# EAGLE library part SPBTLE-RFTR (library MCU_Print_V2)
Bluetooth Modules (802.15.1). Very low power module for Bluetooth Smart v4.1, Mouser : 511-SPBTLE-RFTR
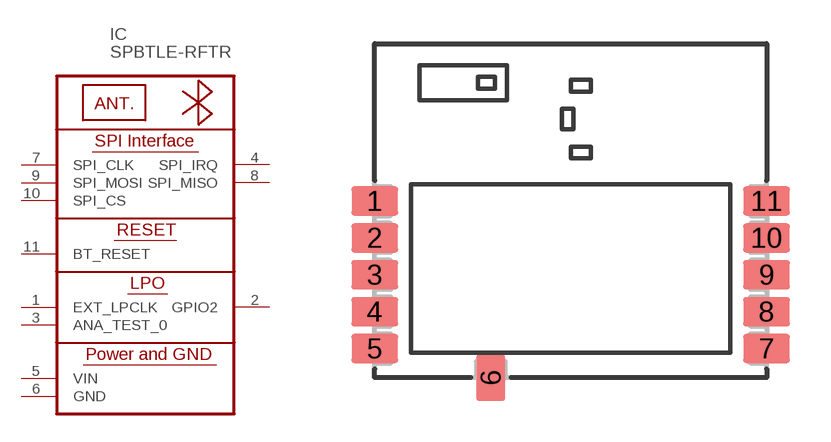
[diagram p5: symbol with the pads of SPBTLE-RFTR; footprint SPBTLE-RFTR]

Designator prefix IC

## SPBTLE-RFTR (CLASS: Bluetooth Low Energy (BLE); DIGI-KEY: 497-17753-1-ND; FARNELL: 2851963; FREQUENCY: 2.4 GHz (2.402 GHz to 2.48 GHz); INTERFACE_TYPE: IRQ, SPI, RESET; MANUFACTURER: STMicroelectronics; MFR_NO: SPBTLE-RFTR; MOUSER: 511-SPBTLE-RFTR; OPERATING-TEMPERATURE: -40 °C ~ 85 °C; OPERATING_SUPPLY_VOLTAGE: 3,3V (1.7 V ~ 3.6 V); PRODUCT-CATEGORY: Bluetooth Modules (802.15.1); PROTOCOL: Bluetooth 4.1; SENSITIVITY: - 88 dBm; VERSION: Bluetooth 4.1)  [SPBTLE-RFTR]
1  EXT_LPCLK  pas
2  GPIO2  pas
3  ANA_TEST_0  pas
4  SPI_IRQ  out
5  VIN  pwr
6  GND  pwr
7  SPI_CLK  in
8  SPI_MISO  out
9  SPI_MOSI  in
10  SPI_CS  in
11  BT_RESET  pas

## Footprint SPBTLE-RFTR (pad centres in mm)
Bluetooth Modules / Package dimensions : (l x p x h) 13,5 x 11,5 x 1,2 mm
smd 1.6 x 1: 1 -6.75,0.33; 2 -6.75,-0.94; 3 -6.75,-2.21; 4 -6.75,-3.48; 5 -6.75,-4.75; 7 6.75,-4.75; 8 6.75,-3.48; 9 6.75,-2.21; 10 6.75,-0.94; 11 6.75,0.33
smd 1 x 1.6: 6 -2.75,-5.75